# EAGLE library part MKDS1/10-3,81 (library con-phoenix-381)
MKDS 1/10-3,81 - Order No. 1727094 Pitch: 3,81mm Number of terminals: 10 Rated Voltage: 160V Maximum load current/ cross section: 12A/1.5mm2-AWG16 Housing Interlocking: none Color: Green
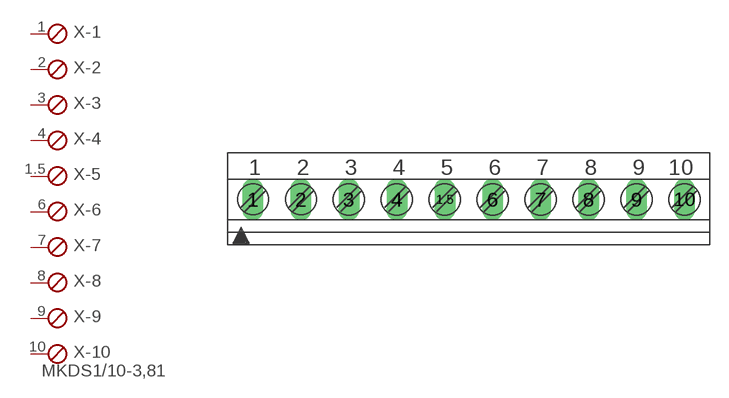
[diagram p4: symbol with the pads of 10POL381; footprint 10POL381]

Designator prefix X; gates -1=SKB -2=SKB -3=SKB -4=SKB -5=SKB -6=SKB -7=SKB -8=SKB -9=SKB -10=SKBV

## MKDS1/10-3,81  [10POL381]
1  -1:1  pas
1.5  -5:1  pas
2  -2:1  pas
3  -3:1  pas
4  -4:1  pas
6  -6:1  pas
7  -7:1  pas
8  -8:1  pas
9  -9:1  pas
10  -10:1  pas

## Footprint 10POL381 (pad centres in mm)
PHOENIX CONNECTOR 10 POL 3.81
drill 1.1 long: 1 0,0; 1.5 15.24,0; 2 3.81,0; 3 7.62,0; 4 11.43,0; 6 19.05,0; 7 22.86,0; 8 26.67,0; 9 30.48,0; 10 34.29,0